# Altium schematic symbol library V_11.SchLib: 4 symbols
Pins are listed as number, name and electrical type; pins without a type are passive.

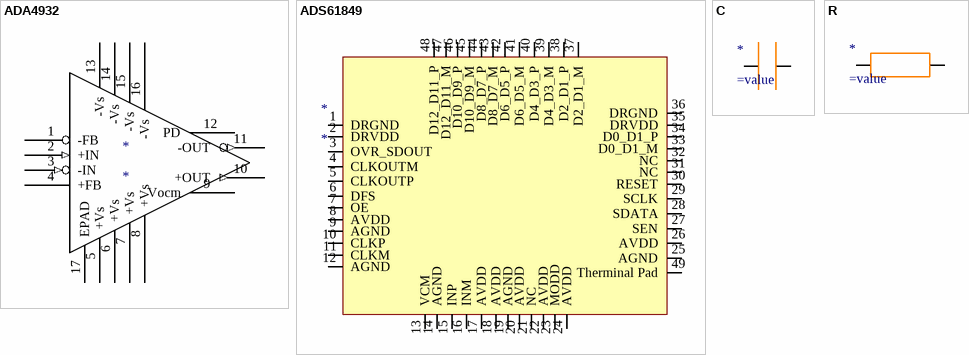
[diagram p0: symbols ADA4932 to R]

## ADA4932
designator *
Value: *
footprint ADA4932
pins: 1 -FB, 2 +IN (in), 3 -IN (in), 4 +FB, 5 +Vs (power), 6 +Vs (power), 7 +Vs (power), 8 +Vs (power), 9 Vocm (power), 10 +OUT (out), 11 -OUT (out), 12 PD, 13 -Vs (power), 14 -Vs (power), 15 -Vs (power), 16 -Vs (power), 17 EPAD (power)

## ADS61849
designator *
footprint ADS61B49
pins: 1 DRGND, 2 DRVDD, 3 OVR_SDOUT, 4 CLKOUTM, 5 CLKOUTP, 6 DFS, 7 OE, 8 AVDD, 9 AGND, 10 CLKP, 11 CLKM, 12 AGND, 13 VCM, 14 AGND, 15 INP, 16 INM, 17 AVDD, 18 AVDD, 19 AGND, 20 AVDD, 21 NC, 22 AVDD, 23 MODD, 24 AVDD, 25 AGND, 26 AVDD, 27 SEN, 28 SDATA, 29 SCLK, 30 RESET, 31 NC, 32 NC, 33 D0_D1_M, 34 D0_D1_P, 35 DRVDD, 36 DRGND, 37 D2_D1_M, 38 D2_D1_P, 39 D4_D3_M, 40 D4_D3_P, 41 D6_D5_M, 42 D6_D5_P, 43 D8_D7_M, 44 D8_D7_P, 45 D10_D9_M, 46 D10_D9_P, 47 D12_D11_M, 48 D12_D11_P, 49 Therminal Pad

## C
designator *
footprint C_0805
pins: 4, 5

## R
designator *
footprint R_0805
pins: 1, 2